# Altium footprint library TSSOP贴片芯片.PcbLib: 7 footprints
Each footprint in its own frame and in the unit in brackets; x right, y up, seen from the top. Pads: shape width x height; smd on the part's side, far side on the other; paste and mask are expansions set on the pad; w line width, h text height; cw(c..) or ccw(c..) is an arc to the next point about the centre after c.
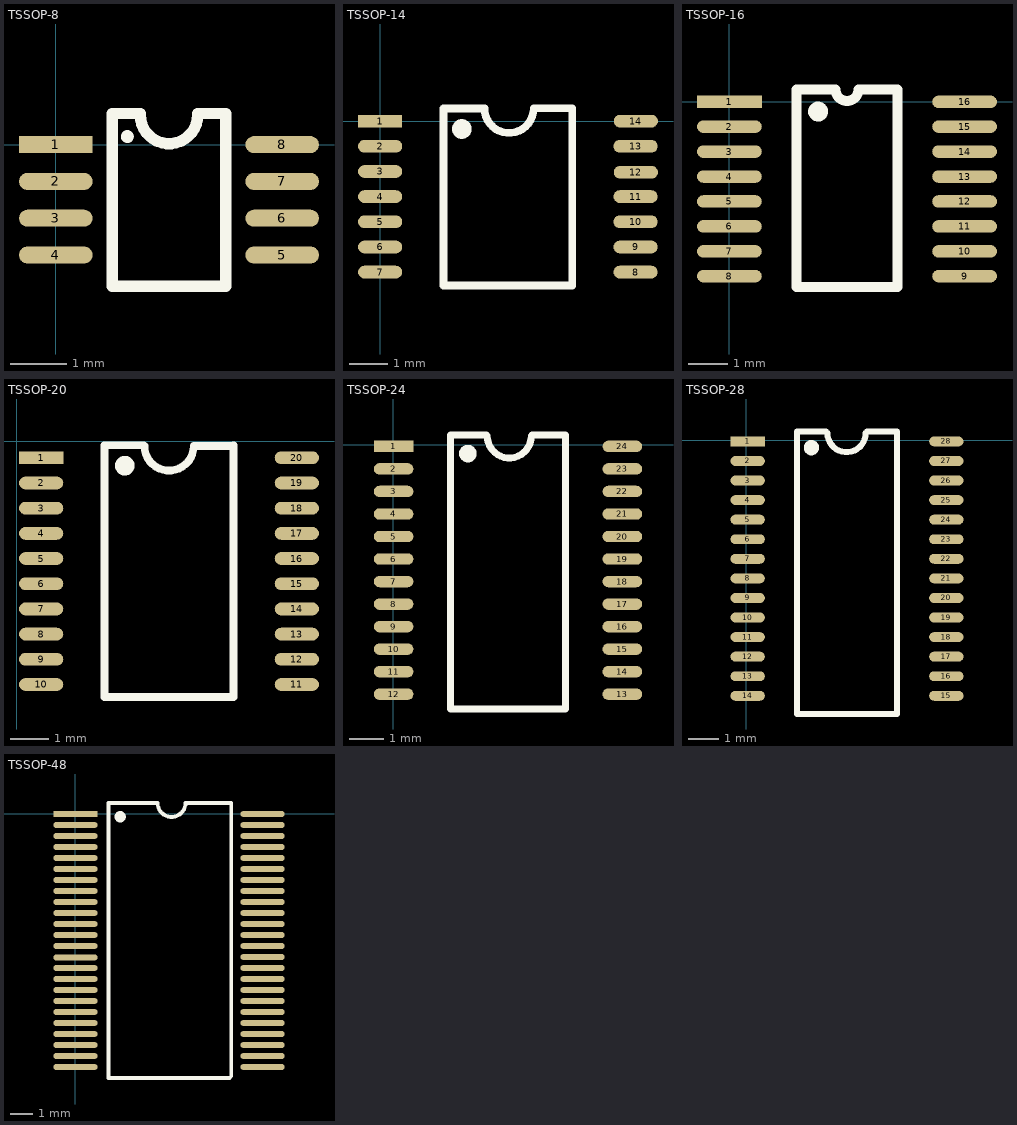
[diagram p0: the footprints below, top view; thin cyan lines are the x and y axes]

## TSSOP-8 [mm] "3.00×4.00×1.00 e=0.65mm（蒜米工坊）"
pads (8):
  rect 1.3x0.3 smd: 1(0,0)
  oval 1.3x0.3 smd: 2(0,-0.65) 3(0,-1.3) 4(0,-1.95) 5(4,-1.95) 6(4,-1.3) 7(4,-0.65) 8(4,0)
Top Overlay:
  circle w0.127: c1.263,0.143 r0.051
  lines w0.2: 1.492,0.525 ccw(c2,0.525) 2.508,0.525 ; 1.492,0.549 1,0.549 1,-2.499 3,-2.499 3,0.549 2.508,0.549
3D body "TSSOP8.STEP": height 1.03, standoff -0.02, extent -0.052,-2.475 4.052,0.525

## TSSOP-14 [mm] "4.96x4.40x1.00 e=0.65（蒜米工坊）"
pads (14):
  rect 1.143x0.33 smd: 1(0,0)
  oval 1.143x0.33 smd: 2(0,-0.65) 3(0,-1.3) 4(0,-1.95) 5(0,-2.6) 6(0,-3.25) 7(0,-3.9) 8(6.6,-3.9) 9(6.6,-3.25) 10(6.6,-2.6) 11(6.6,-1.95) 12(6.608,-1.321) 13(6.6,-0.65) 14(6.608,0)
Top Overlay:
  circle w0.254: c2.112,-0.203 r0.127
  lines w0.2: 2.687,0.325 1.635,0.325 1.635,-4.249 4.965,-4.249 4.965,0.325 ; 2.696,0.33 ccw(c3.331,0.33) 3.966,0.33 4.96,0.33
3D body "TSSOP14.STEP": height 1.03, standoff -0.02, extent 0.028,-4.43 6.432,0.57

## TSSOP-16 [mil] "4.96x4.40x1.00 e=0.65（蒜米工坊）"
pads (16):
  rect 65x12.5 smd: 1(0,0)
  oval 65x12.5 smd: 2(0,-25) 3(0,-50) 4(0,-75) 5(0,-100) 6(0,-125) 7(0,-150) 8(0,-175) 9(236,-175) 10(236,-150) 11(236,-125) 12(236,-100) 13(236,-75) 14(236,-50) 15(236,-25) 16(236,0)
Top Overlay:
  lines w10: 89,-14.79 cw(c89,-9.79) 89.71,-14.74 ; 67.5,-186 67.5,12.5 106.46,12.5 ccw(c118,12.5) 129.54,12.5 168.5,12.5 168.5,-186 67.5,-186
3D body "TSSOP16.STEP": height 40.55, standoff -0.76, extent -6.06,-187.42 246.08,9.43

## TSSOP-20 [mm] "6.50x4.40x1.00 e=0.65（蒜米工坊）"
pads (20):
  rect 1.143x0.33 smd: 1(0.635,-0.432)
  oval 1.143x0.33 smd: 2(0.635,-1.082) 3(0.635,-1.732) 4(0.635,-2.382) 5(0.635,-3.032) 6(0.635,-3.682) 7(0.635,-4.332) 8(0.635,-4.982) 9(0.635,-5.632) 10(0.635,-6.282) 11(7.235,-6.282) 12(7.235,-5.632) 13(7.235,-4.982) 14(7.235,-4.332) 15(7.235,-3.682) 16(7.235,-3.032) 17(7.235,-2.382) 18(7.235,-1.732) 19(7.235,-1.082) 20(7.235,-0.432)
Top Overlay:
  circle w0.254: c2.794,-0.635 r0.127
  lines w0.2: 3.282,-0.107 2.27,-0.107 2.27,-6.607 5.6,-6.607 5.6,-0.107 ; 3.302,-0.127 ccw(c3.937,-0.127) 4.572,-0.127 5.58,-0.127
3D body "TSSOP20.STEP": height 1.03, standoff -0.02, extent 0.735,-6.552 7.139,-0.052

## TSSOP-24 [mil] "7.80x4.40x1.00 e=0.65（蒜米工坊）"
pads (24):
  rect 45x12.99 smd: 1(0.63,-1.79)
  oval 45x12.99 smd: 2(0.63,-27.39) 3(0.63,-52.98) 4(0.63,-78.57) 5(0.63,-104.16) 6(0.63,-129.75) 7(0.63,-155.34) 8(0.63,-180.93) 9(0.63,-206.52) 10(0.63,-232.11) 11(0.63,-257.7) 12(0.63,-283.29) 13(260.47,-283.29) 14(260.47,-257.7) 15(260.47,-232.11) 16(260.47,-206.52) 17(260.47,-180.93) 18(260.47,-155.34) 19(260.47,-129.75) 20(260.47,-104.16) 21(260.47,-78.57) 22(260.47,-52.98) 23(260.47,-27.39) 24(260.47,-1.79)
Top Overlay:
  circle w10: c85,-10 r5
  lines w7.87: 106,11 65,11 65,-300 196.1,-300 196.1,11 158,11 ; 107,10 ccw(c132,10) 157,10
3D body "TSSOP24.STEP": height 40.55, standoff -0.76, extent 3.94,-293.54 256.07,13.55

## TSSOP-28 [mil] "9.70x4.40x1.00 e=0.65（蒜米工坊）"
pads (28):
  rect 45x12.99 smd: 1(1.63,-1.79)
  oval 45x12.99 smd: 2(1.63,-27.39) 3(1.63,-52.98) 4(1.63,-78.57) 5(1.63,-104.16) 6(1.63,-129.75) 7(1.63,-155.34) 8(1.63,-180.93) 9(1.63,-206.52) 10(1.63,-232.11) 11(1.63,-257.7) 12(1.63,-283.29) 13(1.63,-308.88) 14(1.63,-334.47) 15(261.47,-334.47) 16(261.47,-308.88) 17(261.47,-283.29) 18(261.47,-257.7) 19(261.47,-232.11) 20(261.47,-206.52) 21(261.47,-180.93) 22(261.47,-155.34) 23(261.47,-129.75) 24(261.47,-104.16) 25(261.47,-78.57) 26(261.47,-52.98) 27(261.47,-27.39) 28(261.47,-1.79)
Top Overlay:
  circle w10: c85,-10 r5
  lines w7.87: 104,11 66,11 66,-358.27 197.1,-358.27 197.1,11 158,11 ; 106,9 ccw(c131,9) 156,9
3D body "TSSOP28.STEP": height 40.55, standoff -0.76, extent 1.94,-359.91 254.07,25.92

## TSSOP-48 [mm] "12.50×6.10×0.95 e=0.50（蒜米工坊）"
pads (48):
  rect 2x0.279 smd: 1(0,0)
  oval 2x0.279 smd: 2(0,-0.5) 3(0,-1) 4(0,-1.5) 5(0,-2) 6(0,-2.5) 7(0,-3) 8(0,-3.5) 9(0,-4) 10(0,-4.5) 11(0,-5) 12(0,-5.5) 13(0,-6) 14(0,-6.52) 15(0,-7) 16(0,-7.5) 17(0,-8) 18(0,-8.5) 19(0,-9) 20(0,-9.5) 21(0,-10) 22(0,-10.5) 23(0,-11) 24(0,-11.5) 25(8.5,-11.5) 26(8.5,-11) 27(8.5,-10.5) 28(8.5,-10) 29(8.5,-9.5) 30(8.5,-9) 31(8.5,-8.5) 32(8.5,-8) 33(8.5,-7.5) 34(8.5,-7) 35(8.5,-6.5) 36(8.5,-6) 37(8.5,-5.5) 38(8.5,-5) 39(8.5,-4.5) 40(8.5,-4) 41(8.5,-3.5) 42(8.5,-3) 43(8.5,-2.5) 44(8.5,-2) 45(8.5,-1.5) 46(8.5,-1) 47(8.5,-0.5) 48(8.5,0)
Top Overlay:
  circle w0.254: c2.032,-0.127 r0.127
  lines w0.178: 7,-12 7.081,-11.919 ; 7,-12 1.5,-12 1.5,0.5 3.73,0.5 ccw(c4.365,0.5) 5,0.5 7.081,0.5 7.081,-11.919 ; 7,-12 7.081,-11.919
3D body "TSSOP48.STEP": height 1.1, standoff 0.02, extent 0.091,-11.965 8.291,0.535